# Altium schematic symbol library SCH - MCU - STM32 - ST MICROELECTRONICS STM32C011J(4-6)MX SO8N.SchLib: 1 symbol
Pins are listed as number, name and electrical type; pins without a type are passive.

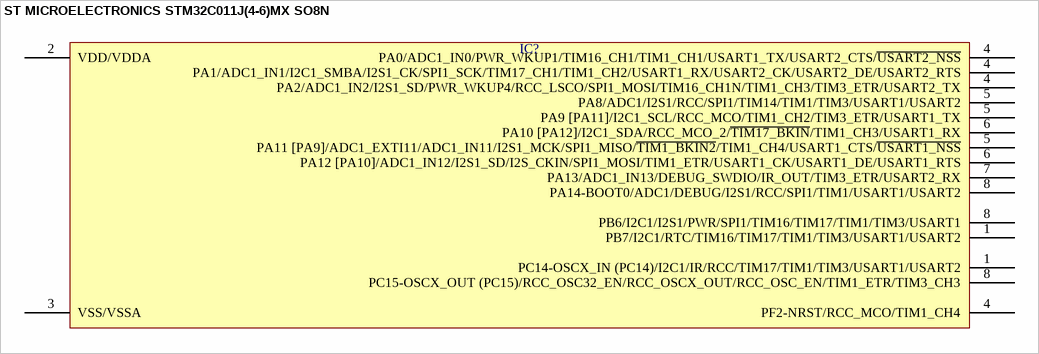
[diagram p0: symbol ST MICROELECTRONICS STM32C011J(4-6)MX SO8N]

## ST MICROELECTRONICS STM32C011J(4-6)MX SO8N
designator IC?  (value not drawn)
pins: 1 PB7/I2C1/RTC/TIM16/TIM17/TIM1/TIM3/USART1/USART2, 1 PC14-OSCX_IN (PC14)/I2C1/IR/RCC/TIM17/TIM1/TIM3/USART1/USART2, 2 VDD/VDDA, 3 VSS/VSSA, 4 PA0/ADC1_IN0/PWR_WKUP1/TIM16_CH1/TIM1_CH1/USART1_TX/USART2_CTS/~{USART2_NSS}, 4 PA1/ADC1_IN1/I2C1_SMBA/I2S1_CK/SPI1_SCK/TIM17_CH1/TIM1_CH2/USART1_RX/USART2_CK/USART2_DE/USART2_RTS, 4 PA2/ADC1_IN2/I2S1_SD/PWR_WKUP4/RCC_LSCO/SPI1_MOSI/TIM16_CH1N/TIM1_CH3/TIM3_ETR/USART2_TX, 4 PF2-NRST/RCC_MCO/TIM1_CH4, 5 PA8/ADC1/I2S1/RCC/SPI1/TIM14/TIM1/TIM3/USART1/USART2, 5 PA9 [PA11]/I2C1_SCL/RCC_MCO/TIM1_CH2/TIM3_ETR/USART1_TX, 5 PA11 [PA9]/ADC1_EXTI11/ADC1_IN11/I2S1_MCK/SPI1_MISO/~{TIM1_BKIN2}/TIM1_CH4/USART1_CTS/~{USART1_NSS}, 6 PA10 [PA12]/I2C1_SDA/RCC_MCO_2/~{TIM17_BKIN}/TIM1_CH3/USART1_RX, 6 PA12 [PA10]/ADC1_IN12/I2S1_SD/I2S_CKIN/SPI1_MOSI/TIM1_ETR/USART1_CK/USART1_DE/USART1_RTS, 7 PA13/ADC1_IN13/DEBUG_SWDIO/IR_OUT/TIM3_ETR/USART2_RX, 8 PA14-BOOT0/ADC1/DEBUG/I2S1/RCC/SPI1/TIM1/USART1/USART2, 8 PB6/I2C1/I2S1/PWR/SPI1/TIM16/TIM17/TIM1/TIM3/USART1, 8 PC15-OSCX_OUT (PC15)/RCC_OSC32_EN/RCC_OSCX_OUT/RCC_OSC_EN/TIM1_ETR/TIM3_CH3